# EAGLE library part UCC21710 (library Labops_Lib_AH)
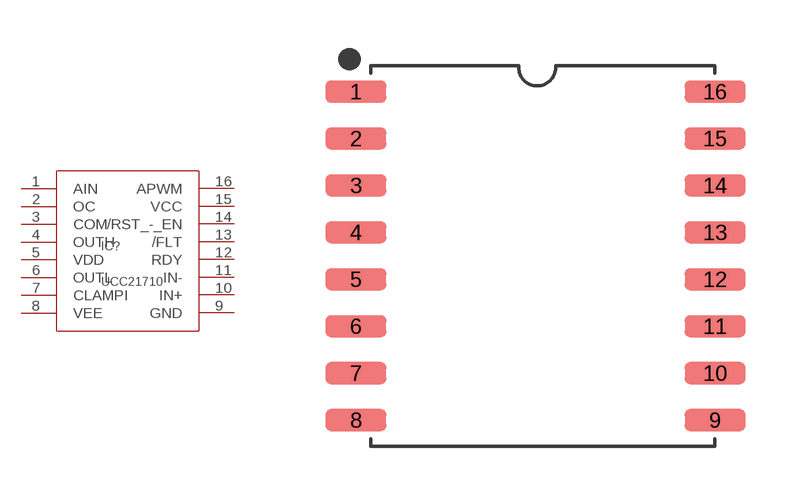
[diagram p82: symbol with the pads of SOIC16_WIDE_HV; footprint SOIC16_WIDE_HV]

Designator prefix IC?

## UCC21710 (DESCRIPTION: Isolated Gate Driver SOIC16; MFN: UCC21710QDWQ1; PART_VALUE: UCC21710)  [SOIC16_WIDE_HV]
1  AIN  pas
2  OC  pas
3  COM  pas
4  OUTH  pas
5  VDD  pas
6  OUTL  pas
7  CLAMPI  pas
8  VEE  pas
9  GND  pas
10  IN+  pas
11  IN-  pas
12  RDY  pas
13  /FLT  pas
14  /RST_-_EN  pas
15  VCC  pas
16  APWM  pas

## Footprint SOIC16_WIDE_HV (pad centres in mm)
smd 1.65 x 0.6: 1 -4.855,4.445; 2 -4.855,3.175; 3 -4.855,1.905; 4 -4.855,0.635; 5 -4.855,-0.635; 6 -4.855,-1.905; 7 -4.855,-3.175; 8 -4.855,-4.445; 9 4.855,-4.445; 10 4.855,-3.175; 11 4.855,-1.905; 12 4.855,-0.635; 13 4.855,0.635; 14 4.855,1.905; 15 4.855,3.175; 16 4.855,4.445